# EAGLE library part PIC32MX470F512L (library ACB)
Jara 6.6.2017 sym, pac12x12 a pac 14x14 a zapojeni dev importovano z PIC32MX470F512L-80I_PF.bxl ...._PT.bxl
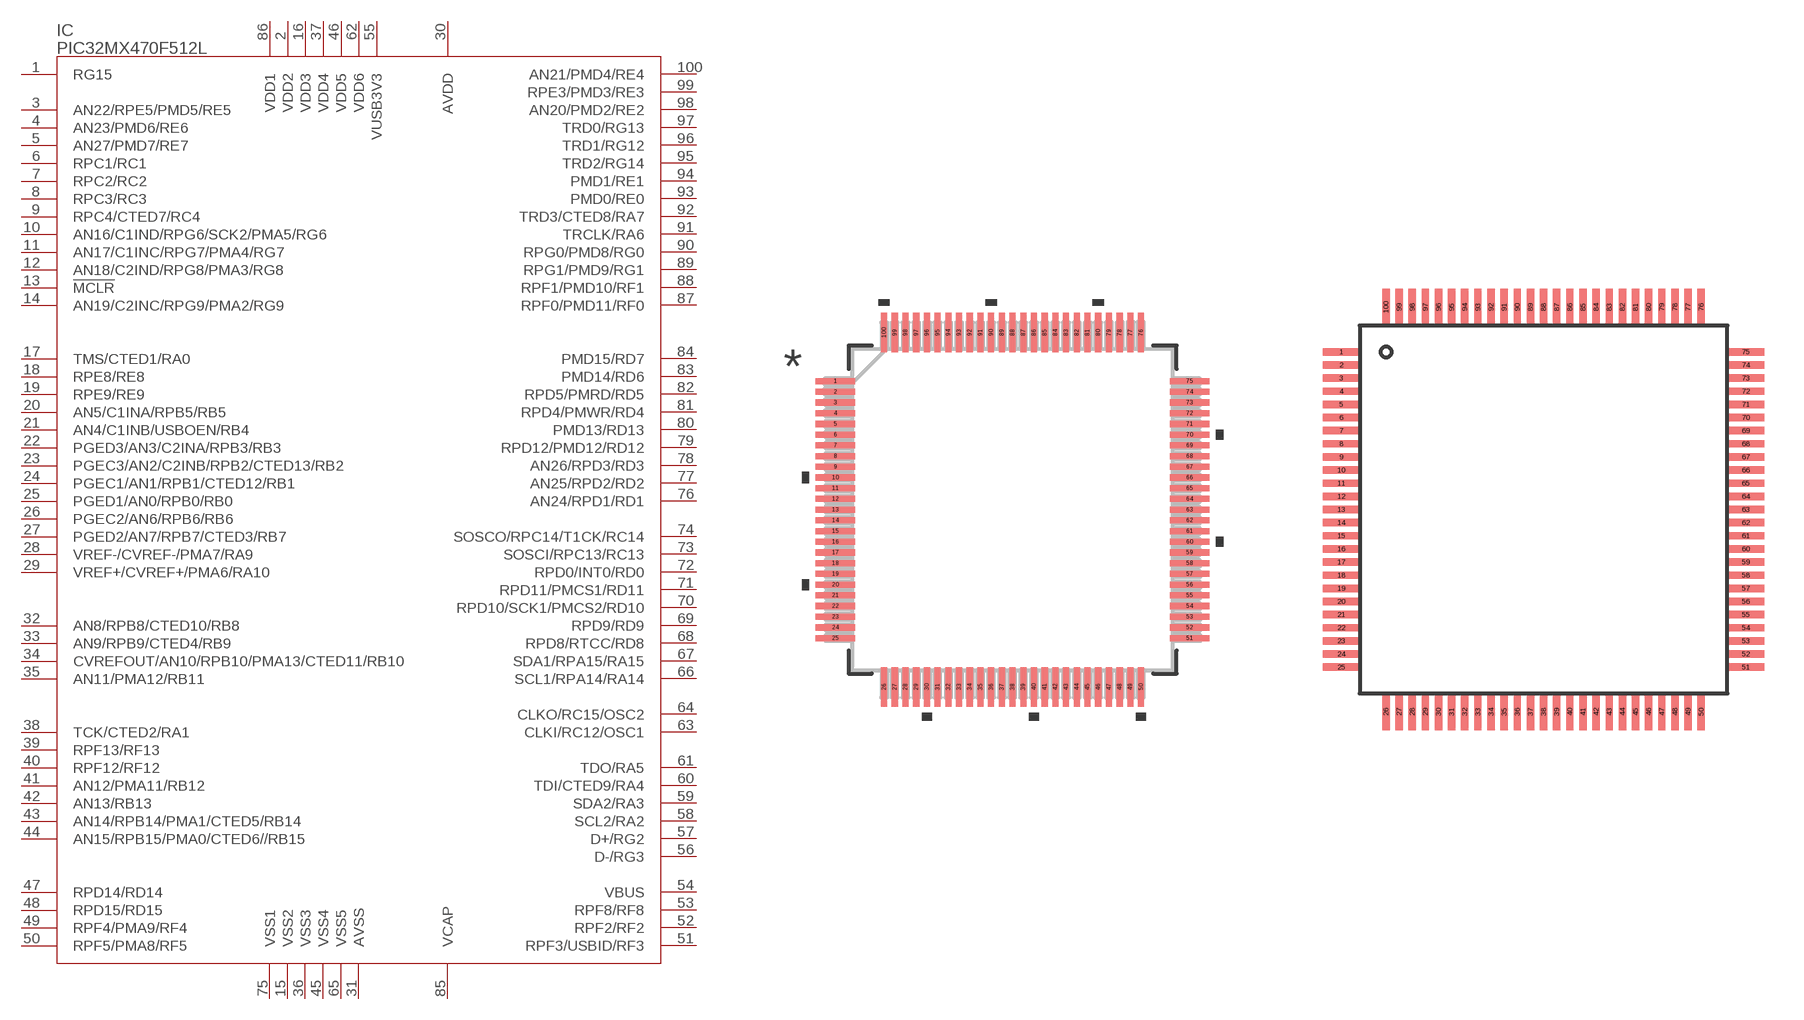
[diagram p8: symbol with the pads of TQFP100_12X12_0,4MM; footprints TQFP100_12X12_0,4MM, TQFP100_14X14_0,5MM]

Designator prefix IC

## PIC32MX470F512L-I/PT  [TQFP100_12X12_0,4MM]
1  RG15
2  VDD2  in
3  AN22/RPE5/PMD5/RE5
4  AN23/PMD6/RE6
5  AN27/PMD7/RE7
6  RPC1/RC1
7  RPC2/RC2
8  RPC3/RC3
9  RPC4/CTED7/RC4
10  AN16/C1IND/RPG6/SCK2/PMA5/RG6
11  AN17/C1INC/RPG7/PMA4/RG7
12  AN18/C2IND/RPG8/PMA3/RG8
13  !MCLR  in
14  AN19/C2INC/RPG9/PMA2/RG9
15  VSS2  in
16  VDD3  in
17  TMS/CTED1/RA0
18  RPE8/RE8
19  RPE9/RE9
20  AN5/C1INA/RPB5/RB5
21  AN4/C1INB/USBOEN/RB4
22  PGED3/AN3/C2INA/RPB3/RB3
23  PGEC3/AN2/C2INB/RPB2/CTED13/RB2
24  PGEC1/AN1/RPB1/CTED12/RB1
25  PGED1/AN0/RPB0/RB0
26  PGEC2/AN6/RPB6/RB6
27  PGED2/AN7/RPB7/CTED3/RB7
28  VREF-/CVREF-/PMA7/RA9
29  VREF+/CVREF+/PMA6/RA10
30  AVDD  in
31  AVSS  in
32  AN8/RPB8/CTED10/RB8
33  AN9/RPB9/CTED4/RB9
34  CVREFOUT/AN10/RPB10/PMA13/CTED11/RB10
35  AN11/PMA12/RB11
36  VSS3  in
37  VDD4  in
38  TCK/CTED2/RA1
39  RPF13/RF13
40  RPF12/RF12
41  AN12/PMA11/RB12
42  AN13/RB13
43  AN14/RPB14/PMA1/CTED5/RB14
44  AN15/RPB15/PMA0/CTED6//RB15
45  VSS4  in
46  VDD5  in
47  RPD14/RD14
48  RPD15/RD15
49  RPF4/PMA9/RF4
50  RPF5/PMA8/RF5
51  RPF3/USBID/RF3
52  RPF2/RF2
53  RPF8/RF8
54  VBUS  in
55  VUSB3V3  in
56  D-/RG3
57  D+/RG2
58  SCL2/RA2
59  SDA2/RA3
60  TDI/CTED9/RA4
61  TDO/RA5
62  VDD6  in
63  CLKI/RC12/OSC1
64  CLKO/RC15/OSC2
65  VSS5  in
66  SCL1/RPA14/RA14
67  SDA1/RPA15/RA15
68  RPD8/RTCC/RD8
69  RPD9/RD9
70  RPD10/SCK1/PMCS2/RD10
71  RPD11/PMCS1/RD11
72  RPD0/INT0/RD0
73  SOSCI/RPC13/RC13
74  SOSCO/RPC14/T1CK/RC14
75  VSS1  in
76  AN24/RPD1/RD1
77  AN25/RPD2/RD2
78  AN26/RPD3/RD3
79  RPD12/PMD12/RD12
80  PMD13/RD13
81  RPD4/PMWR/RD4
82  RPD5/PMRD/RD5
83  PMD14/RD6
84  PMD15/RD7
85  VCAP  in
86  VDD1  in
87  RPF0/PMD11/RF0
88  RPF1/PMD10/RF1
89  RPG1/PMD9/RG1
90  RPG0/PMD8/RG0
91  TRCLK/RA6
92  TRD3/CTED8/RA7
93  PMD0/RE0
94  PMD1/RE1
95  TRD2/RG14
96  TRD1/RG12
97  TRD0/RG13
98  AN20/PMD2/RE2
99  RPE3/PMD3/RE3
100  AN21/PMD4/RE4

## PIC32MX470F512L-I/PF  [TQFP100_14X14_0,5MM]
Pads as for TQFP100_12X12_0,4MM

## Footprint TQFP100_12X12_0,4MM (pad centres in mm)
6-6-2017 import z Microchipu PIC32MX470F512L
smd 1.473 x 0.229: 1 -6.617,4.8; 2 -6.617,4.4; 3 -6.617,4; 4 -6.617,3.6; 5 -6.617,3.2; 6 -6.617,2.8; 7 -6.617,2.4; 8 -6.617,2; 9 -6.617,1.6; 10 -6.617,1.2; 11 -6.617,0.8; 12 -6.617,0.4; 13 -6.617,0; 14 -6.617,-0.4; 15 -6.617,-0.8; 16 -6.617,-1.2; 17 -6.617,-1.6; 18 -6.617,-2; 19 -6.617,-2.4; 20 -6.617,-2.8; 21 -6.617,-3.2; 22 -6.617,-3.6; 23 -6.617,-4; 24 -6.617,-4.4; 25 -6.617,-4.8; 51 6.617,-4.8; 52 6.617,-4.4; 53 6.617,-4; 54 6.617,-3.6; 55 6.617,-3.2; 56 6.617,-2.8; 57 6.617,-2.4; 58 6.617,-2; 59 6.617,-1.6; 60 6.617,-1.2; 61 6.617,-0.8; 62 6.617,-0.4; 63 6.617,0; 64 6.617,0.4; 65 6.617,0.8; 66 6.617,1.2; 67 6.617,1.6; 68 6.617,2; 69 6.617,2.4; 70 6.617,2.8; 71 6.617,3.2; 72 6.617,3.6; 73 6.617,4; 74 6.617,4.4; 75 6.617,4.8
smd 0.229 x 1.473: 26 -4.8,-6.617; 27 -4.4,-6.617; 28 -4,-6.617; 29 -3.6,-6.617; 30 -3.2,-6.617; 31 -2.8,-6.617; 32 -2.4,-6.617; 33 -2,-6.617; 34 -1.6,-6.617; 35 -1.2,-6.617; 36 -0.8,-6.617; 37 -0.4,-6.617; 38 0,-6.617; 39 0.4,-6.617; 40 0.8,-6.617; 41 1.2,-6.617; 42 1.6,-6.617; 43 2,-6.617; 44 2.4,-6.617; 45 2.8,-6.617; 46 3.2,-6.617; 47 3.6,-6.617; 48 4,-6.617; 49 4.4,-6.617; 50 4.8,-6.617; 76 4.8,6.617; 77 4.4,6.617; 78 4,6.617; 79 3.6,6.617; 80 3.2,6.617; 81 2.8,6.617; 82 2.4,6.617; 83 2,6.617; 84 1.6,6.617; 85 1.2,6.617; 86 0.8,6.617; 87 0.4,6.617; 88 0,6.617; 89 -0.4,6.617; 90 -0.8,6.617; 91 -1.2,6.617; 92 -1.6,6.617; 93 -2,6.617; 94 -2.4,6.617; 95 -2.8,6.617; 96 -3.2,6.617; 97 -3.6,6.617; 98 -4,6.617; 99 -4.4,6.617; 100 -4.8,6.617

## Footprint TQFP100_14X14_0,5MM (pad centres in mm)
Jara 6-6-2017
smd 1.39 x 0.28: 1 -7.7,6; 2 -7.7,5.5; 3 -7.7,5; 4 -7.7,4.5; 5 -7.7,4; 6 -7.7,3.5; 7 -7.7,3; 8 -7.7,2.5; 9 -7.7,2; 10 -7.7,1.5; 11 -7.7,1; 12 -7.7,0.5; 13 -7.7,0; 14 -7.7,-0.5; 15 -7.7,-1; 16 -7.7,-1.5; 17 -7.7,-2; 18 -7.7,-2.5; 19 -7.7,-3; 20 -7.7,-3.5; 21 -7.7,-4; 22 -7.7,-4.5; 23 -7.7,-5; 24 -7.7,-5.5; 25 -7.7,-6; 51 7.7,-6; 52 7.7,-5.5; 53 7.7,-5; 54 7.7,-4.5; 55 7.7,-4; 56 7.7,-3.5; 57 7.7,-3; 58 7.7,-2.5; 59 7.7,-2; 60 7.7,-1.5; 61 7.7,-1; 62 7.7,-0.5; 63 7.7,0; 64 7.7,0.5; 65 7.7,1; 66 7.7,1.5; 67 7.7,2; 68 7.7,2.5; 69 7.7,3; 70 7.7,3.5; 71 7.7,4; 72 7.7,4.5; 73 7.7,5; 74 7.7,5.5; 75 7.7,6
smd 0.28 x 1.39: 26 -6,-7.7; 27 -5.5,-7.7; 28 -5,-7.7; 29 -4.5,-7.7; 30 -4,-7.7; 31 -3.5,-7.7; 32 -3,-7.7; 33 -2.5,-7.7; 34 -2,-7.7; 35 -1.5,-7.7; 36 -1,-7.7; 37 -0.5,-7.7; 38 0,-7.7; 39 0.5,-7.7; 40 1,-7.7; 41 1.5,-7.7; 42 2,-7.7; 43 2.5,-7.7; 44 3,-7.7; 45 3.5,-7.7; 46 4,-7.7; 47 4.5,-7.7; 48 5,-7.7; 49 5.5,-7.7; 50 6,-7.7; 76 6,7.7; 77 5.5,7.7; 78 5,7.7; 79 4.5,7.7; 80 4,7.7; 81 3.5,7.7; 82 3,7.7; 83 2.5,7.7; 84 2,7.7; 85 1.5,7.7; 86 1,7.7; 87 0.5,7.7; 88 0,7.7; 89 -0.5,7.7; 90 -1,7.7; 91 -1.5,7.7; 92 -2,7.7; 93 -2.5,7.7; 94 -3,7.7; 95 -3.5,7.7; 96 -4,7.7; 97 -4.5,7.7; 98 -5,7.7; 99 -5.5,7.7; 100 -6,7.7